# Altium footprint library SnapEDApcb.PcbLib: 3 footprints
Each footprint in its own frame and in the unit in brackets; x right, y up, seen from the top. Pads: shape width x height; smd on the part's side, far side on the other; paste and mask are expansions set on the pad; w line width, h text height; cw(c..) or ccw(c..) is an arc to the next point about the centre after c.
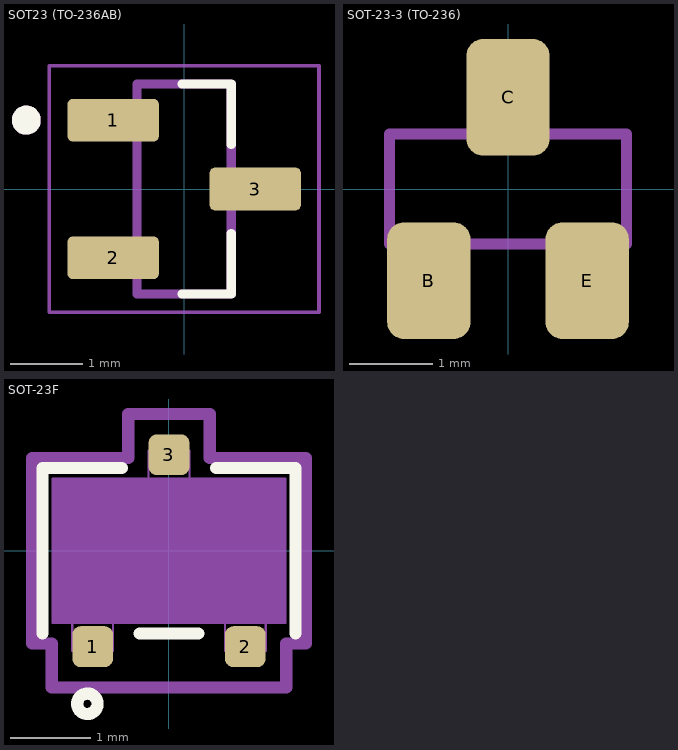
[diagram p0: the footprints below, top view; thin cyan lines are the x and y axes]

## SOT23 (TO-236AB) [mm]
pads (3):
  rrect25% 1.26x0.59 smd: 1(-0.98,0.95) 2(-0.98,-0.95) 3(0.98,0)
Top Overlay:
  circle w0.2: c-2.18,0.95 r0.1
  lines w0.127: -0.03,-1.45 0.65,-1.45 0.65,-0.615 ; -0.03,1.45 0.65,1.45 0.65,0.615
Mechanical 13:
  circle w0.2: c-2.18,0.95 r0.1
  lines w0.127: -0.65,-1.45 -0.65,1.45 0.65,1.45 0.65,-1.45 -0.65,-1.45
Mechanical 15:
  lines w0.05: -1.86,-1.7 1.86,-1.7 1.86,1.7 -1.86,1.7 -1.86,-1.7
3D body "step_temp.STEP": height 1.1, standoff 0, extent -1.15,-1.45 1.15,1.45

## SOT-23-3 (TO-236) [mm]
pads (3):
  rrect40% 1x1.4 smd: B(-0.95,-1.1) C(0,1.1) E(0.95,-1.1)
Mechanical 13:
  region: 0.229,0.711 -0.229,0.711 -0.229,1.295 0.229,1.295
  region: 1.168,-1.296 0.711,-1.296 0.711,-0.711 1.168,-0.711
  region: -0.711,-1.297 -1.17,-1.297 -1.17,-0.711 -0.711,-0.711
  lines w0.127: -1.422,-0.66 1.422,-0.66 1.422,0.66 -1.422,0.66 -1.422,-0.66
3D body "MMBT4403.STEP": height 1.11, standoff 0, extent -1.45,-1.2 1.45,1.2

## SOT-23F [mil]
pads (3):
  rrect40% 20x20 smd paste+0 mask+0: 1(-37.4,-47) 2(37.4,-47) 3(0,47)
Top Overlay:
  circle w6: c-40,-75 r5
  lines w6: -62,-40.5 -62,40.5 -23.1,40.5 ; -14.3,-40.5 14.3,-40.5 ; 23.1,40.5 62,40.5 62,-40.5
Mechanical 13:
  circle w0: c-47,-25.5 r5
  lines w1: -57,-35.5 -57,35.5 57,35.5 57,-35.5 -57,-35.5 ; -47.4,-49 -27.4,-49 -27.4,-35.5 -47.4,-35.5 -47.4,-49 ; -10,35.5 -10,49 10,49 10,35.5 -10,35.5 ; 27.4,-49 47.4,-49 47.4,-35.5 27.4,-35.5 27.4,-49
Mechanical 15:
  region: 57,-35.5 -57,-35.5 -57,35.5 57,35.5
  lines w6: -67,-45.5 -57.4,-45.5 -57.4,-67 57.4,-67 57.4,-45.5 67,-45.5 67,45.5 20,45.5 20,67 -20,67 -20,45.5 -67,45.5 -67,-45.5
3D body "SOT-23F_TOS.step": height 37.09, standoff 0, extent -57.01,-49.02 57.01,49.02